# EAGLE library part ALPHA_LED_BL-S230B (library blinkiverse)
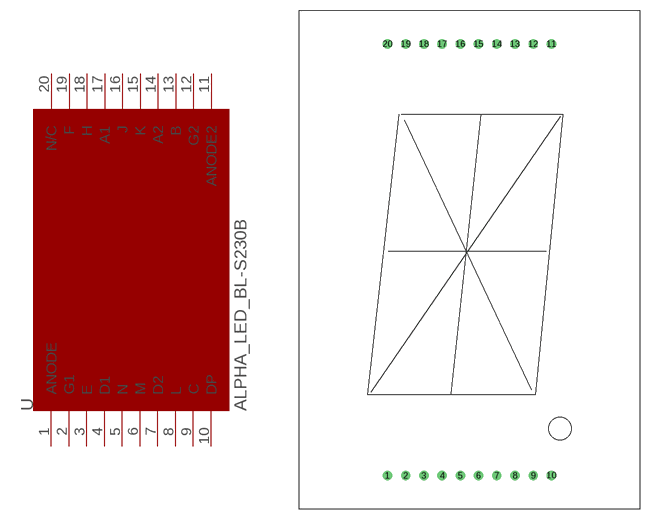
[diagram p3: symbol with the pads of ALPHA_LED_BL-S230B; footprint ALPHA_LED_BL-S230B]

Designator prefix -

## ALPHA_LED_BL-S230B  [ALPHA_LED_BL-S230B]
1  ANODE
2  G1
3  E
4  D1
5  N
6  M
7  D2
8  L
9  C
10  DP
11  ANODE2
12  G2
13  B
14  A2
15  K
16  J
17  A1
18  H
19  F
20  N/C  nc

## Footprint ALPHA_LED_BL-S230B (pad centres in mm)
drill 0.8: 1 12.37,4.65; 2 14.91,4.65; 3 17.45,4.65; 4 19.99,4.65; 5 22.53,4.65; 6 25.07,4.65; 7 27.61,4.65; 8 30.15,4.65; 9 32.69,4.65; 10 35.23,4.65; 11 35.23,64.85; 12 32.69,64.85; 13 30.15,64.85; 14 27.61,64.85; 15 25.07,64.85; 16 22.53,64.85; 17 19.99,64.85; 18 17.45,64.85; 19 14.91,64.85; 20 12.37,64.85